# Altium schematic symbol library CAP,Cer,100nF,50VDC,X7R,0805.Schlib: 1 symbol
Pins are listed as number, name and electrical type; pins without a type are passive.

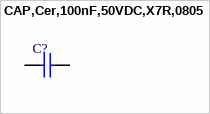
[diagram p0: symbol CAP,Cer,100nF,50VDC,X7R,0805]

## CAP,Cer,100nF,50VDC,X7R,0805
designator C?
pins: 1, 2